# Altium footprint library 26_01_3115.PcbLib: 1 footprints
Each footprint in its own frame and in the unit in brackets; x right, y up, seen from the top. Pads: shape width x height; smd on the part's side, far side on the other; paste and mask are expansions set on the pad; w line width, h text height; cw(c..) or ccw(c..) is an arc to the next point about the centre after c.
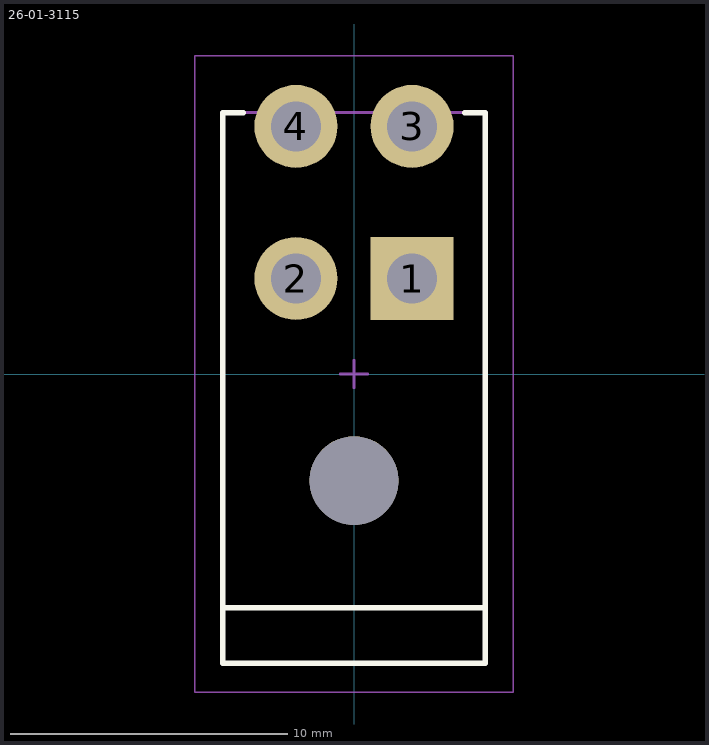
[diagram p0: the footprint, top view; thin cyan lines are the x and y axes]

## 26-01-3115 [mm] "Mini-Fit Jr. 4 pin Header, Dual Row, Right-Angle"
height 9.6
pads (5):
  rect 3x3 hole 1.8: 1(2.1,3.45)
  round 3 hole 1.8: 2(-2.1,3.45) 3(2.1,8.95) 4(-2.1,8.95)
  round 3.2 hole 3.2 unplated: ""(0,-3.85)
Top Overlay:
  lines w0.2: -4.75,-8.45 4.75,-8.45 ; -4,9.45 -4.75,9.45 -4.75,-8.072 -4.75,-10.45 4.75,-10.45 4.75,-8.072 4.75,9.45 4,9.45
Top Comment:
  text ".Comment" at 1,11.75 h1.2
Top Designator:
  text ".Designator" at -0.75,11.75 h1.2
Top Component Outline:
  lines w0.1: -4.75,-10.45 -4.75,9.45 4.75,9.45 4.75,-10.45 -4.75,-10.45
Top Courtyard (Mech15):
  lines w0.05: -5.75,-11.5 5.75,-11.5 5.75,11.5 -5.75,11.5 -5.75,-11.5
  lines w0.1: -0.5,0 0.5,0 ; 0,-0.5 0,0.5
3D body "026013115.stp": height 11.4, standoff -3.6, extent -4.8,-10.417 5.2,9.517